# Altium schematic symbol library kmilo17pet-Maxim_Sensors.SchLib: 1172 symbols (part 15 of 61)
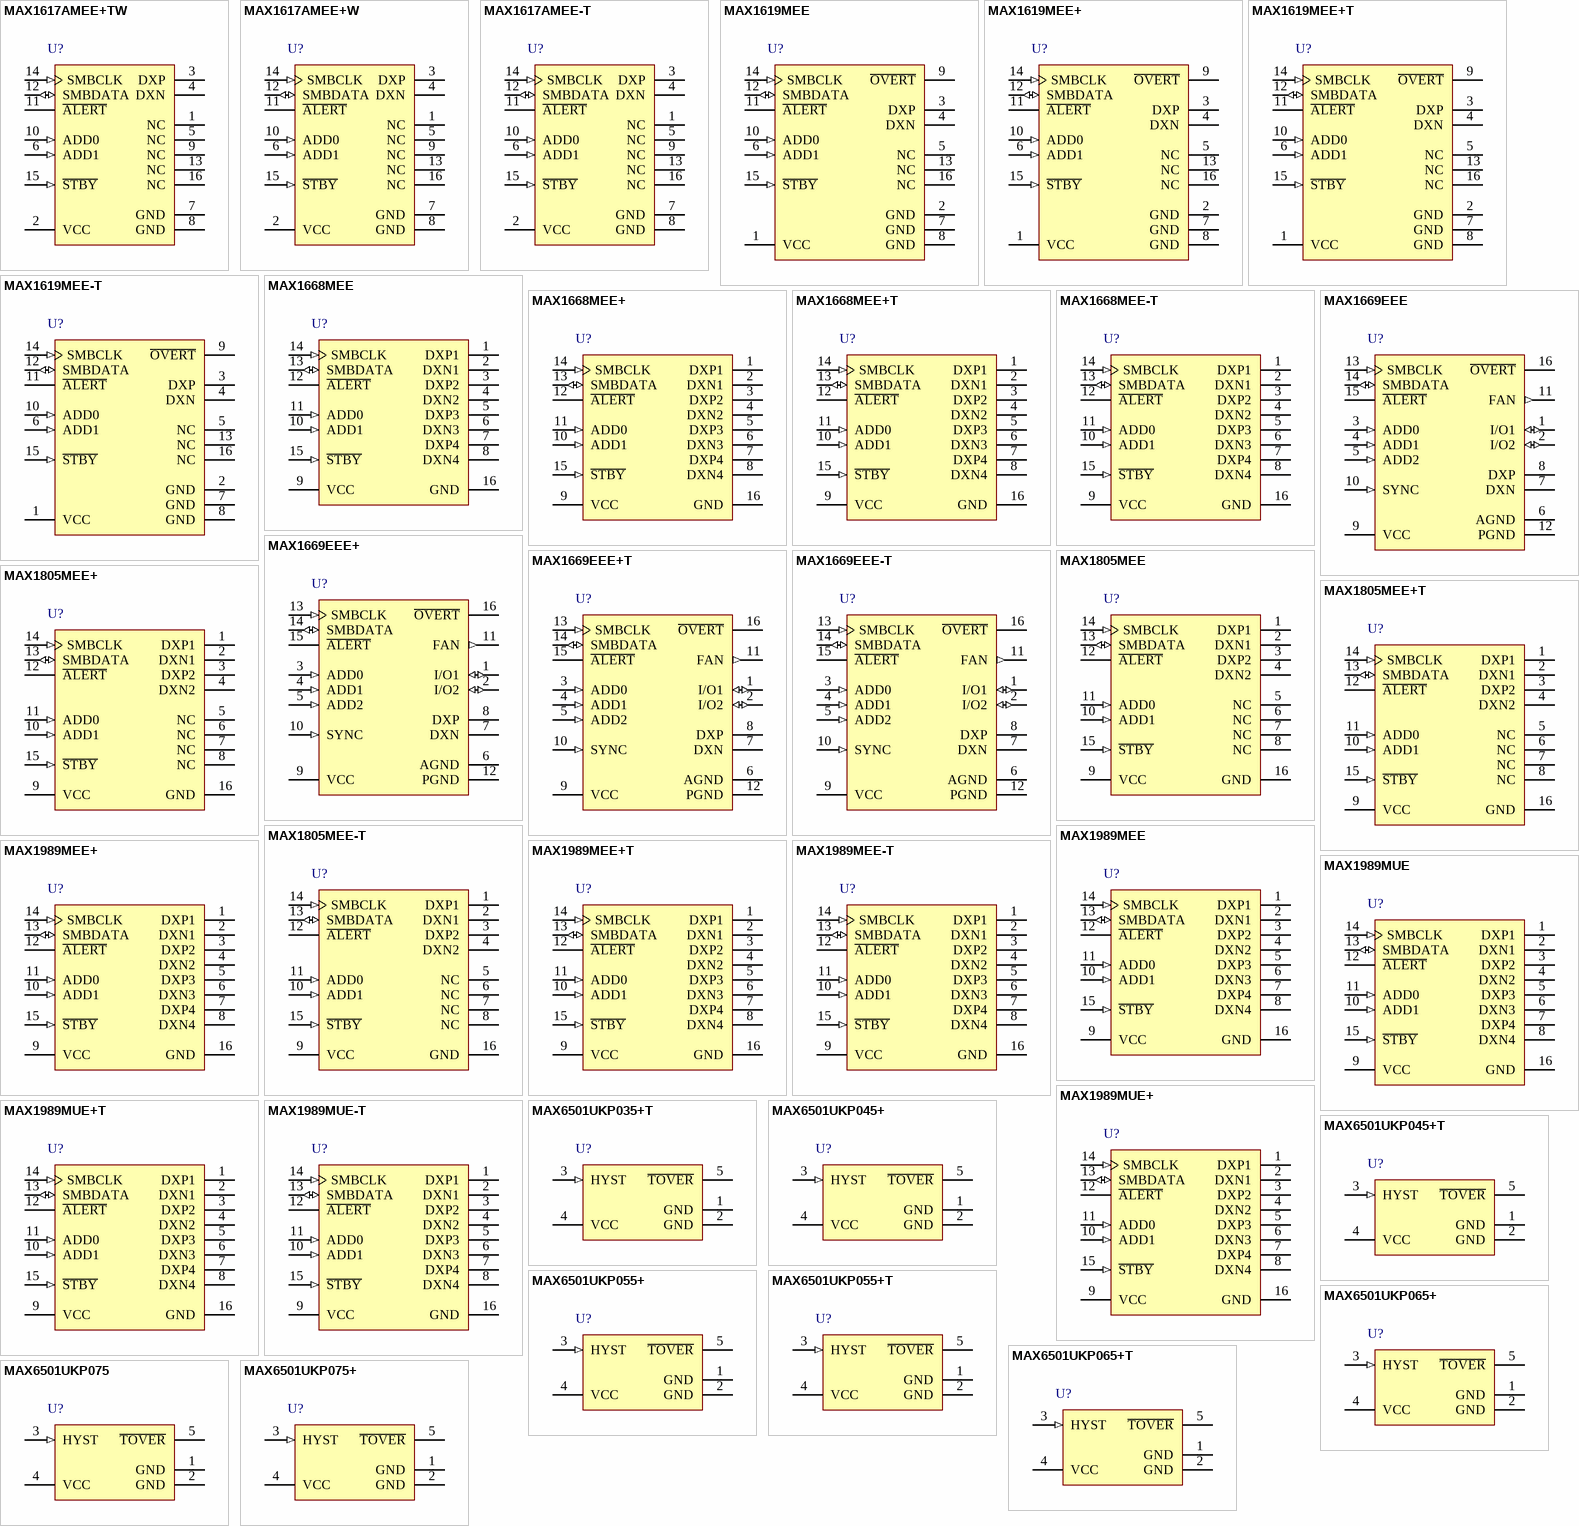
[diagram p47: symbols MAX1617AMEE+TW to MAX6501UKP075+]

## MAX1989MEE+
designator U?
Five-Channel Temperature Sensor with SMBus Serial Interface, 8 Bits Temperature Resolution, -55 to 125 degC, 16-Pin SOP (E16+1), Pb-Free; Generic Part Number: MAX1989; PartNumber: MAX1989MEE+; Alarm Output: Alert; Functions: Remote & Local Sensor; Interface: 2-Wire/I2C/SMBus; Parasite Pwr.: No; DatasheetVersion: Rev. 2; PackageVersion: Rev. K, 04/2012; PackageReference: E16+1; PackageDescription: 16-Pin Quarter Small-Outline Package (E16+1), Body 4.90 x 3.89 mm, Pitch 0.635 mm; Supplier 1: Digi-Key; Supplier Part Number 1: MAX1989MEE+-ND; Supplier 2: Mouser; Supplier Part Number 2: 700-MAX1989MEE; Mounting Technology: Surface Mount; Code_JEDEC: MO137; ComponentLink1Description: Manufacturer URL; ComponentLink1URL: http://www.maximintegrated.com/; ComponentLink2Description: Datasheet; ComponentLink2URL: http://datasheets.maximintegrated.com/en/ds/MAX1668-MAX1989.pdf; ComponentLink3Description: Package Specification; ComponentLink3URL: http://pdfserv.maximintegrated.com/package_dwgs/21-0055.PDF
footprint MAXM-E16+1_N (SOP, 16-Leads, Body 4.9x3.89mm, Pitch 0.635mm, IPC Medium Density)
footprint MAXM-E16+1_L (SOP, 16-Leads, Body 4.9x3.89mm, Pitch 0.635mm, IPC High Density)
footprint MAXM-E16+1_M (SOP, 16-Leads, Body 4.9x3.89mm, Pitch 0.635mm, IPC Low Density)
pins: 1 DXP1 "Combined Current Source and A/D Positive Input for Remote-Diode Channel. Do not leave DXP floating; connect DXP to DXN if no remote diode is used. Place a 2200pF capacitor between DXP and DXN for noise filtering.", 2 DXN1 "Combined Current Sink and A/D Negative Input. DXN is normally biased to a diode voltage above ground.", 3 DXP2 "Combined Current Source and A/D Positive Input for Remote-Diode Channel. Do not leave DXP floating; connect DXP to DXN if no remote diode is used. Place a 2200pF capacitor between DXP and DXN for noise filtering.", 4 DXN2 "Combined Current Sink and A/D Negative Input. DXN is normally biased to a diode voltage above ground.", 5 DXP3 "Combined Current Source and A/D Positive Input for Remote-Diode Channel. Do not leave DXP floating; connect DXP to DXN if no remote diode is used. Place a 2200pF capacitor between DXP and DXN for noise filtering.", 6 DXN3 "Combined Current Sink and A/D Negative Input. DXN is normally biased to a diode voltage above ground.", 7 DXP4 "Combined Current Source and A/D Positive Input for Remote-Diode Channel. Do not leave DXP floating; connect DXP to DXN if no remote diode is used. Place a 2200pF capacitor between DXP and DXN for noise filtering.", 8 DXN4 "Combined Current Sink and A/D Negative Input. DXN is normally biased to a diode voltage above ground.", 9 VCC (power) "Supply Voltage Input, 3V to 5.5V. Bypass to GND with a 0.1uF capacitor. A 200ohm series resistor is recommended but not required for additional noise filtering.", 10 ADD1 (in) "SMBus Address Select Pin (Table 8). ADD0 and ADD1 are sampled upon power-up. Excess capacitance (>50pF) at the address pins when floating can cause addressrecognition problems.", 11 ADD0 (in) "SMBus Slave Address Select Pin", 12 ~{ALERT} (oc) "SMBus Alert (Interrupt) Output, Open Drain", 13 SMBDATA (io) "SMBus Serial-Data Input/Output, Open Drain", 14 SMBCLK (in) "SMBus Serial-Clock Input", 15 ~{STBY} (in) "Hardware Standby Input. Temperature and comparison threshold data are retained in standby mode. Low = standby mode, high = operate mode.", 16 GND (power) "Ground"

## MAX1989MEE+T
designator U?
Five-Channel Temperature Sensor with SMBus Serial Interface, 8 Bits Temperature Resolution, -55 to 125 degC, 16-Pin SOP (E16+1), Pb-Free, Tape and Reel; Generic Part Number: MAX1989; PartNumber: MAX1989MEE+T; Alarm Output: Alert; Functions: Remote & Local Sensor; Interface: 2-Wire/I2C/SMBus; Parasite Pwr.: No; DatasheetVersion: Rev. 2; PackageVersion: Rev. K, 04/2012; PackageReference: E16+1; PackageDescription: 16-Pin Quarter Small-Outline Package (E16+1), Body 4.90 x 3.89 mm, Pitch 0.635 mm; Supplier 1: Digi-Key; Supplier Part Number 1: MAX1989MEE+T-ND; Supplier 2: Mouser; Supplier Part Number 2: 700-MAX1989MEET; Packing: Tape and Reel; Mounting Technology: Surface Mount; Code_JEDEC: MO137; ComponentLink1Description: Manufacturer URL; ComponentLink1URL: http://www.maximintegrated.com/; ComponentLink2Description: Datasheet; ComponentLink2URL: http://datasheets.maximintegrated.com/en/ds/MAX1668-MAX1989.pdf; ComponentLink3Description: Package Specification; ComponentLink3URL: http://pdfserv.maximintegrated.com/package_dwgs/21-0055.PDF
footprint MAXM-E16+1_N (SOP, 16-Leads, Body 4.9x3.89mm, Pitch 0.635mm, IPC Medium Density)
footprint MAXM-E16+1_L (SOP, 16-Leads, Body 4.9x3.89mm, Pitch 0.635mm, IPC High Density)
footprint MAXM-E16+1_M (SOP, 16-Leads, Body 4.9x3.89mm, Pitch 0.635mm, IPC Low Density)
pins: 1 DXP1 "Combined Current Source and A/D Positive Input for Remote-Diode Channel. Do not leave DXP floating; connect DXP to DXN if no remote diode is used. Place a 2200pF capacitor between DXP and DXN for noise filtering.", 2 DXN1 "Combined Current Sink and A/D Negative Input. DXN is normally biased to a diode voltage above ground.", 3 DXP2 "Combined Current Source and A/D Positive Input for Remote-Diode Channel. Do not leave DXP floating; connect DXP to DXN if no remote diode is used. Place a 2200pF capacitor between DXP and DXN for noise filtering.", 4 DXN2 "Combined Current Sink and A/D Negative Input. DXN is normally biased to a diode voltage above ground.", 5 DXP3 "Combined Current Source and A/D Positive Input for Remote-Diode Channel. Do not leave DXP floating; connect DXP to DXN if no remote diode is used. Place a 2200pF capacitor between DXP and DXN for noise filtering.", 6 DXN3 "Combined Current Sink and A/D Negative Input. DXN is normally biased to a diode voltage above ground.", 7 DXP4 "Combined Current Source and A/D Positive Input for Remote-Diode Channel. Do not leave DXP floating; connect DXP to DXN if no remote diode is used. Place a 2200pF capacitor between DXP and DXN for noise filtering.", 8 DXN4 "Combined Current Sink and A/D Negative Input. DXN is normally biased to a diode voltage above ground.", 9 VCC (power) "Supply Voltage Input, 3V to 5.5V. Bypass to GND with a 0.1uF capacitor. A 200ohm series resistor is recommended but not required for additional noise filtering.", 10 ADD1 (in) "SMBus Address Select Pin (Table 8). ADD0 and ADD1 are sampled upon power-up. Excess capacitance (>50pF) at the address pins when floating can cause addressrecognition problems.", 11 ADD0 (in) "SMBus Slave Address Select Pin", 12 ~{ALERT} (oc) "SMBus Alert (Interrupt) Output, Open Drain", 13 SMBDATA (io) "SMBus Serial-Data Input/Output, Open Drain", 14 SMBCLK (in) "SMBus Serial-Clock Input", 15 ~{STBY} (in) "Hardware Standby Input. Temperature and comparison threshold data are retained in standby mode. Low = standby mode, high = operate mode.", 16 GND (power) "Ground"

## MAX1989MEE-T
designator U?
Five-Channel Temperature Sensor with SMBus Serial Interface, 8 Bits Temperature Resolution, -55 to 125 degC, 16-Pin SOP (E16-1), Tape and Reel; Generic Part Number: MAX1989; PartNumber: MAX1989MEE-T; Alarm Output: Alert; Functions: Remote & Local Sensor; Interface: 2-Wire/I2C/SMBus; Parasite Pwr.: No; DatasheetVersion: Rev. 2; PackageVersion: Rev. K, 04/2012; PackageReference: E16-1; PackageDescription: 16-Pin Quarter Small-Outline Package (E16-1), Body 4.90 x 3.89 mm, Pitch 0.635 mm; Supplier 1: Mouser; Supplier Part Number 1: N/A; Packing: Tape and Reel; Mounting Technology: Surface Mount; Code_JEDEC: MO137; ComponentLink1Description: Manufacturer URL; ComponentLink1URL: http://www.maximintegrated.com/; ComponentLink2Description: Datasheet; ComponentLink2URL: http://datasheets.maximintegrated.com/en/ds/MAX1668-MAX1989.pdf; ComponentLink3Description: Package Specification; ComponentLink3URL: http://pdfserv.maximintegrated.com/package_dwgs/21-0055.PDF
footprint MAXM-E16-1_N (SOP, 16-Leads, Body 4.9x3.89mm, Pitch 0.635mm, IPC Medium Density)
footprint MAXM-E16-1_L (SOP, 16-Leads, Body 4.9x3.89mm, Pitch 0.635mm, IPC High Density)
footprint MAXM-E16-1_M (SOP, 16-Leads, Body 4.9x3.89mm, Pitch 0.635mm, IPC Low Density)
pins: 1 DXP1 "Combined Current Source and A/D Positive Input for Remote-Diode Channel. Do not leave DXP floating; connect DXP to DXN if no remote diode is used. Place a 2200pF capacitor between DXP and DXN for noise filtering.", 2 DXN1 "Combined Current Sink and A/D Negative Input. DXN is normally biased to a diode voltage above ground.", 3 DXP2 "Combined Current Source and A/D Positive Input for Remote-Diode Channel. Do not leave DXP floating; connect DXP to DXN if no remote diode is used. Place a 2200pF capacitor between DXP and DXN for noise filtering.", 4 DXN2 "Combined Current Sink and A/D Negative Input. DXN is normally biased to a diode voltage above ground.", 5 DXP3 "Combined Current Source and A/D Positive Input for Remote-Diode Channel. Do not leave DXP floating; connect DXP to DXN if no remote diode is used. Place a 2200pF capacitor between DXP and DXN for noise filtering.", 6 DXN3 "Combined Current Sink and A/D Negative Input. DXN is normally biased to a diode voltage above ground.", 7 DXP4 "Combined Current Source and A/D Positive Input for Remote-Diode Channel. Do not leave DXP floating; connect DXP to DXN if no remote diode is used. Place a 2200pF capacitor between DXP and DXN for noise filtering.", 8 DXN4 "Combined Current Sink and A/D Negative Input. DXN is normally biased to a diode voltage above ground.", 9 VCC (power) "Supply Voltage Input, 3V to 5.5V. Bypass to GND with a 0.1uF capacitor. A 200ohm series resistor is recommended but not required for additional noise filtering.", 10 ADD1 (in) "SMBus Address Select Pin (Table 8). ADD0 and ADD1 are sampled upon power-up. Excess capacitance (>50pF) at the address pins when floating can cause addressrecognition problems.", 11 ADD0 (in) "SMBus Slave Address Select Pin", 12 ~{ALERT} (oc) "SMBus Alert (Interrupt) Output, Open Drain", 13 SMBDATA (io) "SMBus Serial-Data Input/Output, Open Drain", 14 SMBCLK (in) "SMBus Serial-Clock Input", 15 ~{STBY} (in) "Hardware Standby Input. Temperature and comparison threshold data are retained in standby mode. Low = standby mode, high = operate mode.", 16 GND (power) "Ground"

## MAX1989MUE
designator U?
Five-Channel Temperature Sensor with SMBus Serial Interface, 8 Bits Temperature Resolution, -55 to 125 degC, 16-Pin SOP (U16-2); Generic Part Number: MAX1989; PartNumber: MAX1989MUE; Alarm Output: Alert; Functions: Remote & Local Sensor; Interface: 2-Wire/I2C/SMBus; Parasite Pwr.: No; DatasheetVersion: Rev. 2; PackageVersion: Rev. L, 07/2010; PackageReference: U16-2; PackageDescription: 16-Pin Thin Shrink Small-Outline Package, Body 4.4 x 5 mm, Pitch 0.65 mm; Supplier 1: Mouser; Supplier Part Number 1: N/A; Mounting Technology: Surface Mount; Code_JEDEC: MO-153; ComponentLink1Description: Manufacturer URL; ComponentLink1URL: http://www.maximintegrated.com/; ComponentLink2Description: Datasheet; ComponentLink2URL: http://datasheets.maximintegrated.com/en/ds/MAX1668-MAX1989.pdf; ComponentLink3Description: Package Specification; ComponentLink3URL: http://pdfserv.maximintegrated.com/package_dwgs/21-0066.PDF
footprint MAXM-U16-2_N (SOP, 16-Leads, Body 5x4.4mm, Pitch 0.65mm, IPC Medium Density)
footprint MAXM-U16-2_L (SOP, 16-Leads, Body 5x4.4mm, Pitch 0.65mm, IPC High Density)
footprint MAXM-U16-2_M (SOP, 16-Leads, Body 5x4.4mm, Pitch 0.65mm, IPC Low Density)
pins: 1 DXP1 "Combined Current Source and A/D Positive Input for Remote-Diode Channel. Do not leave DXP floating; connect DXP to DXN if no remote diode is used. Place a 2200pF capacitor between DXP and DXN for noise filtering.", 2 DXN1 "Combined Current Sink and A/D Negative Input. DXN is normally biased to a diode voltage above ground.", 3 DXP2 "Combined Current Source and A/D Positive Input for Remote-Diode Channel. Do not leave DXP floating; connect DXP to DXN if no remote diode is used. Place a 2200pF capacitor between DXP and DXN for noise filtering.", 4 DXN2 "Combined Current Sink and A/D Negative Input. DXN is normally biased to a diode voltage above ground.", 5 DXP3 "Combined Current Source and A/D Positive Input for Remote-Diode Channel. Do not leave DXP floating; connect DXP to DXN if no remote diode is used. Place a 2200pF capacitor between DXP and DXN for noise filtering.", 6 DXN3 "Combined Current Sink and A/D Negative Input. DXN is normally biased to a diode voltage above ground.", 7 DXP4 "Combined Current Source and A/D Positive Input for Remote-Diode Channel. Do not leave DXP floating; connect DXP to DXN if no remote diode is used. Place a 2200pF capacitor between DXP and DXN for noise filtering.", 8 DXN4 "Combined Current Sink and A/D Negative Input. DXN is normally biased to a diode voltage above ground.", 9 VCC (power) "Supply Voltage Input, 3V to 5.5V. Bypass to GND with a 0.1uF capacitor. A 200ohm series resistor is recommended but not required for additional noise filtering.", 10 ADD1 (in) "SMBus Address Select Pin (Table 8). ADD0 and ADD1 are sampled upon power-up. Excess capacitance (>50pF) at the address pins when floating can cause addressrecognition problems.", 11 ADD0 (in) "SMBus Slave Address Select Pin", 12 ~{ALERT} (oc) "SMBus Alert (Interrupt) Output, Open Drain", 13 SMBDATA (io) "SMBus Serial-Data Input/Output, Open Drain", 14 SMBCLK (in) "SMBus Serial-Clock Input", 15 ~{STBY} (in) "Hardware Standby Input. Temperature and comparison threshold data are retained in standby mode. Low = standby mode, high = operate mode.", 16 GND (power) "Ground"

## MAX1989MUE+
designator U?
Five-Channel Temperature Sensor with SMBus Serial Interface, 8 Bits Temperature Resolution, -55 to 125 degC, 16-Pin SOP (U16+2), Pb-Free; Generic Part Number: MAX1989; PartNumber: MAX1989MUE+; Alarm Output: Alert; Functions: Remote & Local Sensor; Interface: 2-Wire/I2C/SMBus; Parasite Pwr.: No; DatasheetVersion: Rev. 2; PackageVersion: Rev. L, 07/2010; PackageReference: U16+2; PackageDescription: 16-Pin Thin Shrink Small-Outline Package (U16+2), Body 5 x 4.4 mm, Pitch 0.65 mm; Supplier 1: Digi-Key; Supplier Part Number 1: MAX1989MUE+-ND; Supplier 2: Mouser; Supplier Part Number 2: 700-MAX1989MUE; Mounting Technology: Surface Mount; Code_JEDEC: MO-153; ComponentLink1Description: Manufacturer URL; ComponentLink1URL: http://www.maximintegrated.com/; ComponentLink2Description: Datasheet; ComponentLink2URL: http://datasheets.maximintegrated.com/en/ds/MAX1668-MAX1989.pdf; ComponentLink3Description: Package Specification; ComponentLink3URL: http://pdfserv.maximintegrated.com/package_dwgs/21-0066.PDF
footprint MAXM-U16+2_N (SOP, 16-Leads, Body 5x4.4mm, Pitch 0.65mm, IPC Medium Density)
footprint MAXM-U16+2_L (SOP, 16-Leads, Body 5x4.4mm, Pitch 0.65mm, IPC High Density)
footprint MAXM-U16+2_M (SOP, 16-Leads, Body 5x4.4mm, Pitch 0.65mm, IPC Low Density)
pins: 1 DXP1 "Combined Current Source and A/D Positive Input for Remote-Diode Channel. Do not leave DXP floating; connect DXP to DXN if no remote diode is used. Place a 2200pF capacitor between DXP and DXN for noise filtering.", 2 DXN1 "Combined Current Sink and A/D Negative Input. DXN is normally biased to a diode voltage above ground.", 3 DXP2 "Combined Current Source and A/D Positive Input for Remote-Diode Channel. Do not leave DXP floating; connect DXP to DXN if no remote diode is used. Place a 2200pF capacitor between DXP and DXN for noise filtering.", 4 DXN2 "Combined Current Sink and A/D Negative Input. DXN is normally biased to a diode voltage above ground.", 5 DXP3 "Combined Current Source and A/D Positive Input for Remote-Diode Channel. Do not leave DXP floating; connect DXP to DXN if no remote diode is used. Place a 2200pF capacitor between DXP and DXN for noise filtering.", 6 DXN3 "Combined Current Sink and A/D Negative Input. DXN is normally biased to a diode voltage above ground.", 7 DXP4 "Combined Current Source and A/D Positive Input for Remote-Diode Channel. Do not leave DXP floating; connect DXP to DXN if no remote diode is used. Place a 2200pF capacitor between DXP and DXN for noise filtering.", 8 DXN4 "Combined Current Sink and A/D Negative Input. DXN is normally biased to a diode voltage above ground.", 9 VCC (power) "Supply Voltage Input, 3V to 5.5V. Bypass to GND with a 0.1uF capacitor. A 200ohm series resistor is recommended but not required for additional noise filtering.", 10 ADD1 (in) "SMBus Address Select Pin (Table 8). ADD0 and ADD1 are sampled upon power-up. Excess capacitance (>50pF) at the address pins when floating can cause addressrecognition problems.", 11 ADD0 (in) "SMBus Slave Address Select Pin", 12 ~{ALERT} (oc) "SMBus Alert (Interrupt) Output, Open Drain", 13 SMBDATA (io) "SMBus Serial-Data Input/Output, Open Drain", 14 SMBCLK (in) "SMBus Serial-Clock Input", 15 ~{STBY} (in) "Hardware Standby Input. Temperature and comparison threshold data are retained in standby mode. Low = standby mode, high = operate mode.", 16 GND (power) "Ground"

## MAX1989MUE+T
designator U?
Five-Channel Temperature Sensor with SMBus Serial Interface, 8 Bits Temperature Resolution, -55 to 125 degC, 16-Pin SOP (U16+2), Pb-Free, Tape and Reel; Generic Part Number: MAX1989; PartNumber: MAX1989MUE+T; Alarm Output: Alert; Functions: Remote & Local Sensor; Interface: 2-Wire/I2C/SMBus; Parasite Pwr.: No; DatasheetVersion: Rev. 2; PackageVersion: Rev. L, 07/2010; PackageReference: U16+2; PackageDescription: 16-Pin Thin Shrink Small-Outline Package (U16+2), Body 5 x 4.4 mm, Pitch 0.65 mm; Supplier 1: Digi-Key; Supplier Part Number 1: MAX1989MUE+T-ND; Supplier 2: Mouser; Supplier Part Number 2: 700-MAX1989MUET; Packing: Tape and Reel; Mounting Technology: Surface Mount; Code_JEDEC: MO-153; ComponentLink1Description: Manufacturer URL; ComponentLink1URL: http://www.maximintegrated.com/; ComponentLink2Description: Datasheet; ComponentLink2URL: http://datasheets.maximintegrated.com/en/ds/MAX1668-MAX1989.pdf; ComponentLink3Description: Package Specification; ComponentLink3URL: http://pdfserv.maximintegrated.com/package_dwgs/21-0066.PDF
footprint MAXM-U16+2_N (SOP, 16-Leads, Body 5x4.4mm, Pitch 0.65mm, IPC Medium Density)
footprint MAXM-U16+2_L (SOP, 16-Leads, Body 5x4.4mm, Pitch 0.65mm, IPC High Density)
footprint MAXM-U16+2_M (SOP, 16-Leads, Body 5x4.4mm, Pitch 0.65mm, IPC Low Density)
pins: 1 DXP1 "Combined Current Source and A/D Positive Input for Remote-Diode Channel. Do not leave DXP floating; connect DXP to DXN if no remote diode is used. Place a 2200pF capacitor between DXP and DXN for noise filtering.", 2 DXN1 "Combined Current Sink and A/D Negative Input. DXN is normally biased to a diode voltage above ground.", 3 DXP2 "Combined Current Source and A/D Positive Input for Remote-Diode Channel. Do not leave DXP floating; connect DXP to DXN if no remote diode is used. Place a 2200pF capacitor between DXP and DXN for noise filtering.", 4 DXN2 "Combined Current Sink and A/D Negative Input. DXN is normally biased to a diode voltage above ground.", 5 DXP3 "Combined Current Source and A/D Positive Input for Remote-Diode Channel. Do not leave DXP floating; connect DXP to DXN if no remote diode is used. Place a 2200pF capacitor between DXP and DXN for noise filtering.", 6 DXN3 "Combined Current Sink and A/D Negative Input. DXN is normally biased to a diode voltage above ground.", 7 DXP4 "Combined Current Source and A/D Positive Input for Remote-Diode Channel. Do not leave DXP floating; connect DXP to DXN if no remote diode is used. Place a 2200pF capacitor between DXP and DXN for noise filtering.", 8 DXN4 "Combined Current Sink and A/D Negative Input. DXN is normally biased to a diode voltage above ground.", 9 VCC (power) "Supply Voltage Input, 3V to 5.5V. Bypass to GND with a 0.1uF capacitor. A 200ohm series resistor is recommended but not required for additional noise filtering.", 10 ADD1 (in) "SMBus Address Select Pin (Table 8). ADD0 and ADD1 are sampled upon power-up. Excess capacitance (>50pF) at the address pins when floating can cause addressrecognition problems.", 11 ADD0 (in) "SMBus Slave Address Select Pin", 12 ~{ALERT} (oc) "SMBus Alert (Interrupt) Output, Open Drain", 13 SMBDATA (io) "SMBus Serial-Data Input/Output, Open Drain", 14 SMBCLK (in) "SMBus Serial-Clock Input", 15 ~{STBY} (in) "Hardware Standby Input. Temperature and comparison threshold data are retained in standby mode. Low = standby mode, high = operate mode.", 16 GND (power) "Ground"

## MAX1989MUE-T
designator U?
Five-Channel Temperature Sensor with SMBus Serial Interface, 8 Bits Temperature Resolution, -55 to 125 degC, 16-Pin SOP (U16-2), Tape and Reel; Generic Part Number: MAX1989; PartNumber: MAX1989MUE-T; Alarm Output: Alert; Functions: Remote & Local Sensor; Interface: 2-Wire/I2C/SMBus; Parasite Pwr.: No; DatasheetVersion: Rev. 2; PackageVersion: Rev. L, 07/2010; PackageReference: U16-2; PackageDescription: 16-Pin Thin Shrink Small-Outline Package, Body 4.4 x 5 mm, Pitch 0.65 mm; Supplier 1: Mouser; Supplier Part Number 1: N/A; Packing: Tape and Reel; Mounting Technology: Surface Mount; Code_JEDEC: MO-153; ComponentLink1Description: Manufacturer URL; ComponentLink1URL: http://www.maximintegrated.com/; ComponentLink2Description: Datasheet; ComponentLink2URL: http://datasheets.maximintegrated.com/en/ds/MAX1668-MAX1989.pdf; ComponentLink3Description: Package Specification; ComponentLink3URL: http://pdfserv.maximintegrated.com/package_dwgs/21-0066.PDF
footprint MAXM-U16-2_N (SOP, 16-Leads, Body 5x4.4mm, Pitch 0.65mm, IPC Medium Density)
footprint MAXM-U16-2_L (SOP, 16-Leads, Body 5x4.4mm, Pitch 0.65mm, IPC High Density)
footprint MAXM-U16-2_M (SOP, 16-Leads, Body 5x4.4mm, Pitch 0.65mm, IPC Low Density)
pins: 1 DXP1 "Combined Current Source and A/D Positive Input for Remote-Diode Channel. Do not leave DXP floating; connect DXP to DXN if no remote diode is used. Place a 2200pF capacitor between DXP and DXN for noise filtering.", 2 DXN1 "Combined Current Sink and A/D Negative Input. DXN is normally biased to a diode voltage above ground.", 3 DXP2 "Combined Current Source and A/D Positive Input for Remote-Diode Channel. Do not leave DXP floating; connect DXP to DXN if no remote diode is used. Place a 2200pF capacitor between DXP and DXN for noise filtering.", 4 DXN2 "Combined Current Sink and A/D Negative Input. DXN is normally biased to a diode voltage above ground.", 5 DXP3 "Combined Current Source and A/D Positive Input for Remote-Diode Channel. Do not leave DXP floating; connect DXP to DXN if no remote diode is used. Place a 2200pF capacitor between DXP and DXN for noise filtering.", 6 DXN3 "Combined Current Sink and A/D Negative Input. DXN is normally biased to a diode voltage above ground.", 7 DXP4 "Combined Current Source and A/D Positive Input for Remote-Diode Channel. Do not leave DXP floating; connect DXP to DXN if no remote diode is used. Place a 2200pF capacitor between DXP and DXN for noise filtering.", 8 DXN4 "Combined Current Sink and A/D Negative Input. DXN is normally biased to a diode voltage above ground.", 9 VCC (power) "Supply Voltage Input, 3V to 5.5V. Bypass to GND with a 0.1uF capacitor. A 200ohm series resistor is recommended but not required for additional noise filtering.", 10 ADD1 (in) "SMBus Address Select Pin (Table 8). ADD0 and ADD1 are sampled upon power-up. Excess capacitance (>50pF) at the address pins when floating can cause addressrecognition problems.", 11 ADD0 (in) "SMBus Slave Address Select Pin", 12 ~{ALERT} (oc) "SMBus Alert (Interrupt) Output, Open Drain", 13 SMBDATA (io) "SMBus Serial-Data Input/Output, Open Drain", 14 SMBCLK (in) "SMBus Serial-Clock Input", 15 ~{STBY} (in) "Hardware Standby Input. Temperature and comparison threshold data are retained in standby mode. Low = standby mode, high = operate mode.", 16 GND (power) "Ground"

## MAX6501UKP035+T
designator U?
Low-Cost, 2.7 to 5.5 V, Micropower Open-Drain Temperature Switch with Hot Trip Threshold, -55 to 125 degC, 5-Pin SOT23 (U5+2), Pb-Free, Tape and Reel; Generic Part Number: MAX6501; PartNumber: MAX6501UKP035+T; Functions: Temperature Switch/Temperature Comparator; Interface: Logic; DatasheetVersion: Rev. 6; PackageVersion: Rev. G, 04/2011; PackageReference: U5+2; PackageDescription: 5-Pin Small-Outline Transistor Package, Body 1.625 x 2.9 mm, Pitch 0.95 mm; Supplier 1: Digi-Key; Supplier Part Number 1: MAX6501UKP035+T-ND; Supplier 2: Mouser; Supplier Part Number 2: 700-MAX6501UKP035+T; Packing: Tape and Reel; Mounting Technology: Surface Mount; Code_JEDEC: MO178; ComponentLink1Description: Manufacturer URL; ComponentLink1URL: http://www.maximintegrated.com/; ComponentLink2Description: Datasheet; ComponentLink2URL: http://datasheets.maximintegrated.com/en/ds/MAX6501; ComponentLink3Description: Package Specification; ComponentLink3URL: http://pdfserv.maximintegrated.com/package_dwgs/21-0057.PDF
footprint MAXM-U5+2_N (SOT23, 5-Leads, Body 2.9x1.625mm, Pitch 0.95mm, IPC Medium Density)
footprint MAXM-U5+2_L (SOT23, 5-Leads, Body 2.9x1.625mm, Pitch 0.95mm, IPC High Density)
footprint MAXM-U5+2_M (SOT23, 5-Leads, Body 2.9x1.625mm, Pitch 0.95mm, IPC Low Density)
pins: 1 GND (power) "Ground. Not internally connected. Connect both ground pins together close to the chip. Pin 2 provides the lowest thermal resistance to the die.", 2 GND (power) "Ground. Not internally connected. Connect both ground pins together close to the chip. Pin 2 provides the lowest thermal resistance to the die.", 3 HYST (in) "Hysteresis Input. Connect HYST to GND for 2degreesC hysteresis, or connect to VCC for 10 degreesC hysteresis.", 4 VCC (power) "Supply Input (+2.7V to +5.5V)", 5 ~{TOVER} (oc) "Open-Drain, Active-Low Output. T\O\V\E\R\ goes low when the die temperature exceeds the factory-programmed temperature threshold. Connect to a 100k ohm pullup resistor. May be pulled up to a voltage higher than VCC."

## MAX6501UKP045+
designator U?
Low-Cost, 2.7 to 5.5 V, Micropower Open-Drain Temperature Switch with Hot Trip Threshold, -55 to 125 degC, 5-Pin SOT23 (U5+2), Pb-Free; Generic Part Number: MAX6501; PartNumber: MAX6501UKP045+; Functions: Temperature Switch/Temperature Comparator; Interface: Logic; DatasheetVersion: Rev. 6; PackageVersion: Rev. G, 04/2011; PackageReference: U5+2; PackageDescription: 5-Pin Small-Outline Transistor Package, Body 1.625 x 2.9 mm, Pitch 0.95 mm; Supplier 1: Mouser; Supplier Part Number 1: N/A; Mounting Technology: Surface Mount; Code_JEDEC: MO178; ComponentLink1Description: Manufacturer URL; ComponentLink1URL: http://www.maximintegrated.com/; ComponentLink2Description: Datasheet; ComponentLink2URL: http://datasheets.maximintegrated.com/en/ds/MAX6501; ComponentLink3Description: Package Specification; ComponentLink3URL: http://pdfserv.maximintegrated.com/package_dwgs/21-0057.PDF
footprint MAXM-U5+2_N (SOT23, 5-Leads, Body 2.9x1.625mm, Pitch 0.95mm, IPC Medium Density)
footprint MAXM-U5+2_L (SOT23, 5-Leads, Body 2.9x1.625mm, Pitch 0.95mm, IPC High Density)
footprint MAXM-U5+2_M (SOT23, 5-Leads, Body 2.9x1.625mm, Pitch 0.95mm, IPC Low Density)
pins: 1 GND (power) "Ground. Not internally connected. Connect both ground pins together close to the chip. Pin 2 provides the lowest thermal resistance to the die.", 2 GND (power) "Ground. Not internally connected. Connect both ground pins together close to the chip. Pin 2 provides the lowest thermal resistance to the die.", 3 HYST (in) "Hysteresis Input. Connect HYST to GND for 2degreesC hysteresis, or connect to VCC for 10 degreesC hysteresis.", 4 VCC (power) "Supply Input (+2.7V to +5.5V)", 5 ~{TOVER} (oc) "Open-Drain, Active-Low Output. T\O\V\E\R\ goes low when the die temperature exceeds the factory-programmed temperature threshold. Connect to a 100k ohm pullup resistor. May be pulled up to a voltage higher than VCC."

## MAX6501UKP045+T
designator U?
Low-Cost, 2.7 to 5.5 V, Micropower Open-Drain Temperature Switch with Hot Trip Threshold, -55 to 125 degC, 5-Pin SOT23 (U5+2), Pb-Free, Tape and Reel; Generic Part Number: MAX6501; PartNumber: MAX6501UKP045+T; Functions: Temperature Switch/Temperature Comparator; Interface: Logic; DatasheetVersion: Rev. 6; PackageVersion: Rev. G, 04/2011; PackageReference: U5+2; PackageDescription: 5-Pin Small-Outline Transistor Package, Body 1.625 x 2.9 mm, Pitch 0.95 mm; Supplier 1: Digi-Key; Supplier Part Number 1: MAX6501UKP045+T-ND; Supplier 2: Mouser; Supplier Part Number 2: 700-MAX6501UKP045T; Packing: Tape and Reel; Mounting Technology: Surface Mount; Code_JEDEC: MO178; ComponentLink1Description: Manufacturer URL; ComponentLink1URL: http://www.maximintegrated.com/; ComponentLink2Description: Datasheet; ComponentLink2URL: http://datasheets.maximintegrated.com/en/ds/MAX6501; ComponentLink3Description: Package Specification; ComponentLink3URL: http://pdfserv.maximintegrated.com/package_dwgs/21-0057.PDF
footprint MAXM-U5+2_N (SOT23, 5-Leads, Body 2.9x1.625mm, Pitch 0.95mm, IPC Medium Density)
footprint MAXM-U5+2_L (SOT23, 5-Leads, Body 2.9x1.625mm, Pitch 0.95mm, IPC High Density)
footprint MAXM-U5+2_M (SOT23, 5-Leads, Body 2.9x1.625mm, Pitch 0.95mm, IPC Low Density)
pins: 1 GND (power) "Ground. Not internally connected. Connect both ground pins together close to the chip. Pin 2 provides the lowest thermal resistance to the die.", 2 GND (power) "Ground. Not internally connected. Connect both ground pins together close to the chip. Pin 2 provides the lowest thermal resistance to the die.", 3 HYST (in) "Hysteresis Input. Connect HYST to GND for 2degreesC hysteresis, or connect to VCC for 10 degreesC hysteresis.", 4 VCC (power) "Supply Input (+2.7V to +5.5V)", 5 ~{TOVER} (oc) "Open-Drain, Active-Low Output. T\O\V\E\R\ goes low when the die temperature exceeds the factory-programmed temperature threshold. Connect to a 100k ohm pullup resistor. May be pulled up to a voltage higher than VCC."

## MAX6501UKP055+
designator U?
Low-Cost, 2.7 to 5.5 V, Micropower Open-Drain Temperature Switch with Hot Trip Threshold, -55 to 125 degC, 5-Pin SOT23 (U5+2), Pb-Free; Generic Part Number: MAX6501; PartNumber: MAX6501UKP055+; Functions: Temperature Switch/Temperature Comparator; Interface: Logic; DatasheetVersion: Rev. 6; PackageVersion: Rev. G, 04/2011; PackageReference: U5+2; PackageDescription: 5-Pin Small-Outline Transistor Package, Body 1.625 x 2.9 mm, Pitch 0.95 mm; Supplier 1: Mouser; Supplier Part Number 1: N/A; Mounting Technology: Surface Mount; Code_JEDEC: MO178; ComponentLink1Description: Manufacturer URL; ComponentLink1URL: http://www.maximintegrated.com/; ComponentLink2Description: Datasheet; ComponentLink2URL: http://datasheets.maximintegrated.com/en/ds/MAX6501; ComponentLink3Description: Package Specification; ComponentLink3URL: http://pdfserv.maximintegrated.com/package_dwgs/21-0057.PDF
footprint MAXM-U5+2_N (SOT23, 5-Leads, Body 2.9x1.625mm, Pitch 0.95mm, IPC Medium Density)
footprint MAXM-U5+2_L (SOT23, 5-Leads, Body 2.9x1.625mm, Pitch 0.95mm, IPC High Density)
footprint MAXM-U5+2_M (SOT23, 5-Leads, Body 2.9x1.625mm, Pitch 0.95mm, IPC Low Density)
pins: 1 GND (power) "Ground. Not internally connected. Connect both ground pins together close to the chip. Pin 2 provides the lowest thermal resistance to the die.", 2 GND (power) "Ground. Not internally connected. Connect both ground pins together close to the chip. Pin 2 provides the lowest thermal resistance to the die.", 3 HYST (in) "Hysteresis Input. Connect HYST to GND for 2degreesC hysteresis, or connect to VCC for 10 degreesC hysteresis.", 4 VCC (power) "Supply Input (+2.7V to +5.5V)", 5 ~{TOVER} (oc) "Open-Drain, Active-Low Output. T\O\V\E\R\ goes low when the die temperature exceeds the factory-programmed temperature threshold. Connect to a 100k ohm pullup resistor. May be pulled up to a voltage higher than VCC."

## MAX6501UKP055+T
designator U?
Low-Cost, 2.7 to 5.5 V, Micropower Open-Drain Temperature Switch with Hot Trip Threshold, -55 to 125 degC, 5-Pin SOT23 (U5+2), Pb-Free, Tape and Reel; Generic Part Number: MAX6501; PartNumber: MAX6501UKP055+T; Functions: Temperature Switch/Temperature Comparator; Interface: Logic; DatasheetVersion: Rev. 6; PackageVersion: Rev. G, 04/2011; PackageReference: U5+2; PackageDescription: 5-Pin Small-Outline Transistor Package, Body 1.625 x 2.9 mm, Pitch 0.95 mm; Supplier 1: Digi-Key; Supplier Part Number 1: MAX6501UKP055+T-ND; Supplier 2: Mouser; Supplier Part Number 2: 700-MAX6501UKP055T; Packing: Tape and Reel; Mounting Technology: Surface Mount; Code_JEDEC: MO178; ComponentLink1Description: Manufacturer URL; ComponentLink1URL: http://www.maximintegrated.com/; ComponentLink2Description: Datasheet; ComponentLink2URL: http://datasheets.maximintegrated.com/en/ds/MAX6501; ComponentLink3Description: Package Specification; ComponentLink3URL: http://pdfserv.maximintegrated.com/package_dwgs/21-0057.PDF
footprint MAXM-U5+2_N (SOT23, 5-Leads, Body 2.9x1.625mm, Pitch 0.95mm, IPC Medium Density)
footprint MAXM-U5+2_L (SOT23, 5-Leads, Body 2.9x1.625mm, Pitch 0.95mm, IPC High Density)
footprint MAXM-U5+2_M (SOT23, 5-Leads, Body 2.9x1.625mm, Pitch 0.95mm, IPC Low Density)
pins: 1 GND (power) "Ground. Not internally connected. Connect both ground pins together close to the chip. Pin 2 provides the lowest thermal resistance to the die.", 2 GND (power) "Ground. Not internally connected. Connect both ground pins together close to the chip. Pin 2 provides the lowest thermal resistance to the die.", 3 HYST (in) "Hysteresis Input. Connect HYST to GND for 2degreesC hysteresis, or connect to VCC for 10 degreesC hysteresis.", 4 VCC (power) "Supply Input (+2.7V to +5.5V)", 5 ~{TOVER} (oc) "Open-Drain, Active-Low Output. T\O\V\E\R\ goes low when the die temperature exceeds the factory-programmed temperature threshold. Connect to a 100k ohm pullup resistor. May be pulled up to a voltage higher than VCC."

## MAX6501UKP065+
designator U?
Low-Cost, 2.7 to 5.5 V, Micropower Open-Drain Temperature Switch with Hot Trip Threshold, -55 to 125 degC, 5-Pin SOT23 (U5+2), Pb-Free; Generic Part Number: MAX6501; PartNumber: MAX6501UKP065+; Functions: Temperature Switch/Temperature Comparator; Interface: Logic; DatasheetVersion: Rev. 6; PackageVersion: Rev. G, 04/2011; PackageReference: U5+2; PackageDescription: 5-Pin Small-Outline Transistor Package, Body 1.625 x 2.9 mm, Pitch 0.95 mm; Supplier 1: Mouser; Supplier Part Number 1: N/A; Mounting Technology: Surface Mount; Code_JEDEC: MO178; ComponentLink1Description: Manufacturer URL; ComponentLink1URL: http://www.maximintegrated.com/; ComponentLink2Description: Datasheet; ComponentLink2URL: http://datasheets.maximintegrated.com/en/ds/MAX6501; ComponentLink3Description: Package Specification; ComponentLink3URL: http://pdfserv.maximintegrated.com/package_dwgs/21-0057.PDF
footprint MAXM-U5+2_N (SOT23, 5-Leads, Body 2.9x1.625mm, Pitch 0.95mm, IPC Medium Density)
footprint MAXM-U5+2_L (SOT23, 5-Leads, Body 2.9x1.625mm, Pitch 0.95mm, IPC High Density)
footprint MAXM-U5+2_M (SOT23, 5-Leads, Body 2.9x1.625mm, Pitch 0.95mm, IPC Low Density)
pins: 1 GND (power) "Ground. Not internally connected. Connect both ground pins together close to the chip. Pin 2 provides the lowest thermal resistance to the die.", 2 GND (power) "Ground. Not internally connected. Connect both ground pins together close to the chip. Pin 2 provides the lowest thermal resistance to the die.", 3 HYST (in) "Hysteresis Input. Connect HYST to GND for 2degreesC hysteresis, or connect to VCC for 10 degreesC hysteresis.", 4 VCC (power) "Supply Input (+2.7V to +5.5V)", 5 ~{TOVER} (oc) "Open-Drain, Active-Low Output. T\O\V\E\R\ goes low when the die temperature exceeds the factory-programmed temperature threshold. Connect to a 100k ohm pullup resistor. May be pulled up to a voltage higher than VCC."

## MAX6501UKP065+T
designator U?
Low-Cost, 2.7 to 5.5 V, Micropower Open-Drain Temperature Switch with Hot Trip Threshold, -55 to 125 degC, 5-Pin SOT23 (U5+2), Pb-Free, Tape and Reel; Generic Part Number: MAX6501; PartNumber: MAX6501UKP065+T; Functions: Temperature Switch/Temperature Comparator; Interface: Logic; DatasheetVersion: Rev. 6; PackageVersion: Rev. G, 04/2011; PackageReference: U5+2; PackageDescription: 5-Pin Small-Outline Transistor Package, Body 1.625 x 2.9 mm, Pitch 0.95 mm; Supplier 1: Digi-Key; Supplier Part Number 1: MAX6501UKP065+T-ND; Supplier 2: Mouser; Supplier Part Number 2: 700-MAX6501UKP065T; Packing: Tape and Reel; Mounting Technology: Surface Mount; Code_JEDEC: MO178; ComponentLink1Description: Manufacturer URL; ComponentLink1URL: http://www.maximintegrated.com/; ComponentLink2Description: Datasheet; ComponentLink2URL: http://datasheets.maximintegrated.com/en/ds/MAX6501; ComponentLink3Description: Package Specification; ComponentLink3URL: http://pdfserv.maximintegrated.com/package_dwgs/21-0057.PDF
footprint MAXM-U5+2_N (SOT23, 5-Leads, Body 2.9x1.625mm, Pitch 0.95mm, IPC Medium Density)
footprint MAXM-U5+2_L (SOT23, 5-Leads, Body 2.9x1.625mm, Pitch 0.95mm, IPC High Density)
footprint MAXM-U5+2_M (SOT23, 5-Leads, Body 2.9x1.625mm, Pitch 0.95mm, IPC Low Density)
pins: 1 GND (power) "Ground. Not internally connected. Connect both ground pins together close to the chip. Pin 2 provides the lowest thermal resistance to the die.", 2 GND (power) "Ground. Not internally connected. Connect both ground pins together close to the chip. Pin 2 provides the lowest thermal resistance to the die.", 3 HYST (in) "Hysteresis Input. Connect HYST to GND for 2degreesC hysteresis, or connect to VCC for 10 degreesC hysteresis.", 4 VCC (power) "Supply Input (+2.7V to +5.5V)", 5 ~{TOVER} (oc) "Open-Drain, Active-Low Output. T\O\V\E\R\ goes low when the die temperature exceeds the factory-programmed temperature threshold. Connect to a 100k ohm pullup resistor. May be pulled up to a voltage higher than VCC."

## MAX6501UKP075
designator U?
Low-Cost, 2.7 to 5.5 V, Micropower Open-Drain Temperature Switch with Hot Trip Threshold, -55 to 125 degC, 5-Pin SOT23 (U5-2); Generic Part Number: MAX6501; PartNumber: MAX6501UKP075; Functions: Temperature Switch/Temperature Comparator; Interface: Logic; DatasheetVersion: Rev. 6; PackageVersion: Rev. G, 04/2011; PackageReference: U5-2; PackageDescription: 5-Pin Small-Outline Transistor Package, Body 1.625 x 2.9 mm, Pitch 0.95 mm; Supplier 1: Mouser; Supplier Part Number 1: N/A; Mounting Technology: Surface Mount; Code_JEDEC: MO-178; ComponentLink1Description: Manufacturer URL; ComponentLink1URL: http://www.maximintegrated.com/; ComponentLink2Description: Datasheet; ComponentLink2URL: http://datasheets.maximintegrated.com/en/ds/MAX6501; ComponentLink3Description: Package Specification; ComponentLink3URL: http://pdfserv.maximintegrated.com/package_dwgs/21-0057.PDF
footprint MAXM-U5-2_N (SOT23, 5-Leads, Body 2.9x1.625mm, Pitch 0.95mm, IPC Medium Density)
footprint MAXM-U5-2_L (SOT23, 5-Leads, Body 2.9x1.625mm, Pitch 0.95mm, IPC High Density)
footprint MAXM-U5-2_M (SOT23, 5-Leads, Body 2.9x1.625mm, Pitch 0.95mm, IPC Low Density)
pins: 1 GND (power) "Ground. Not internally connected. Connect both ground pins together close to the chip. Pin 2 provides the lowest thermal resistance to the die.", 2 GND (power) "Ground. Not internally connected. Connect both ground pins together close to the chip. Pin 2 provides the lowest thermal resistance to the die.", 3 HYST (in) "Hysteresis Input. Connect HYST to GND for 2degreesC hysteresis, or connect to VCC for 10 degreesC hysteresis.", 4 VCC (power) "Supply Input (+2.7V to +5.5V)", 5 ~{TOVER} (oc) "Open-Drain, Active-Low Output. T\O\V\E\R\ goes low when the die temperature exceeds the factory-programmed temperature threshold. Connect to a 100k ohm pullup resistor. May be pulled up to a voltage higher than VCC."

## MAX6501UKP075+
designator U?
Low-Cost, 2.7 to 5.5 V, Micropower Open-Drain Temperature Switch with Hot Trip Threshold, -55 to 125 degC, 5-Pin SOT23 (U5+2), Pb-Free; Generic Part Number: MAX6501; PartNumber: MAX6501UKP075+; Functions: Temperature Switch/Temperature Comparator; Interface: Logic; DatasheetVersion: Rev. 6; PackageVersion: Rev. G, 04/2011; PackageReference: U5+2; PackageDescription: 5-Pin Small-Outline Transistor Package, Body 1.625 x 2.9 mm, Pitch 0.95 mm; Supplier 1: Mouser; Supplier Part Number 1: N/A; Mounting Technology: Surface Mount; Code_JEDEC: MO178; ComponentLink1Description: Manufacturer URL; ComponentLink1URL: http://www.maximintegrated.com/; ComponentLink2Description: Datasheet; ComponentLink2URL: http://datasheets.maximintegrated.com/en/ds/MAX6501; ComponentLink3Description: Package Specification; ComponentLink3URL: http://pdfserv.maximintegrated.com/package_dwgs/21-0057.PDF
footprint MAXM-U5+2_N (SOT23, 5-Leads, Body 2.9x1.625mm, Pitch 0.95mm, IPC Medium Density)
footprint MAXM-U5+2_L (SOT23, 5-Leads, Body 2.9x1.625mm, Pitch 0.95mm, IPC High Density)
footprint MAXM-U5+2_M (SOT23, 5-Leads, Body 2.9x1.625mm, Pitch 0.95mm, IPC Low Density)
pins: 1 GND (power) "Ground. Not internally connected. Connect both ground pins together close to the chip. Pin 2 provides the lowest thermal resistance to the die.", 2 GND (power) "Ground. Not internally connected. Connect both ground pins together close to the chip. Pin 2 provides the lowest thermal resistance to the die.", 3 HYST (in) "Hysteresis Input. Connect HYST to GND for 2degreesC hysteresis, or connect to VCC for 10 degreesC hysteresis.", 4 VCC (power) "Supply Input (+2.7V to +5.5V)", 5 ~{TOVER} (oc) "Open-Drain, Active-Low Output. T\O\V\E\R\ goes low when the die temperature exceeds the factory-programmed temperature threshold. Connect to a 100k ohm pullup resistor. May be pulled up to a voltage higher than VCC."

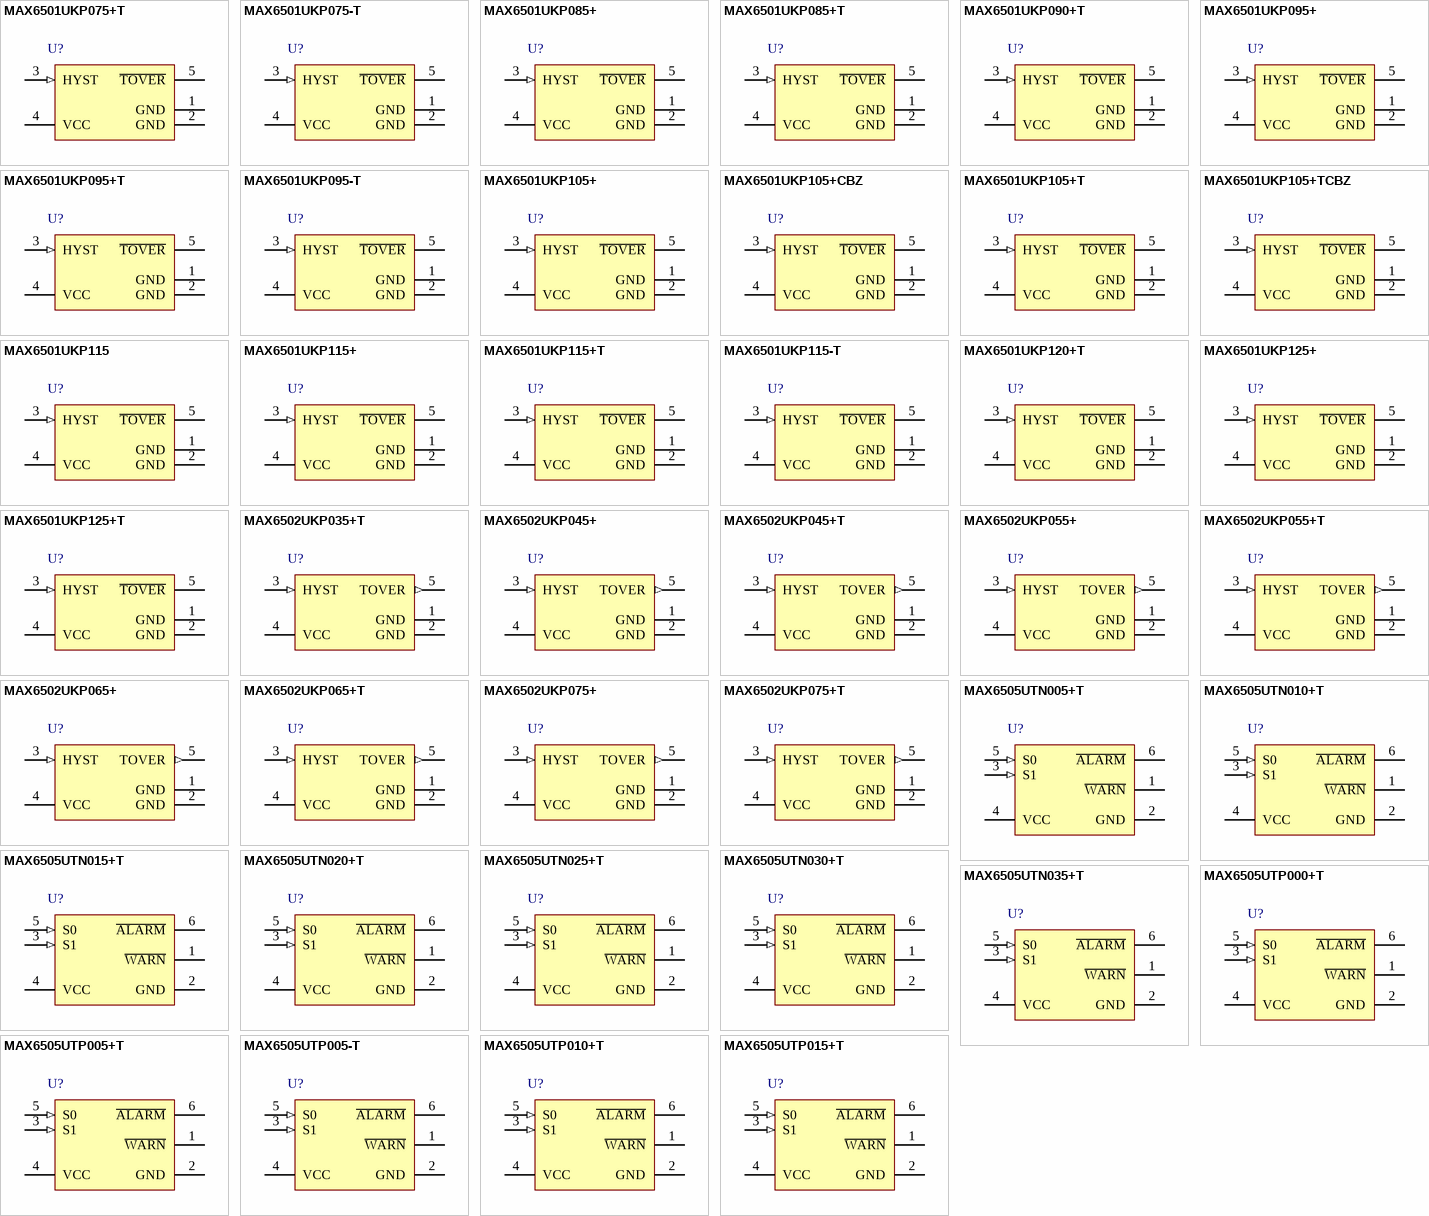
[diagram p9: symbols MAX6501UKP075+T to MAX6505UTP015+T]

## MAX6501UKP075+T
designator U?
Low-Cost, 2.7 to 5.5 V, Micropower Open-Drain Temperature Switch with Hot Trip Threshold, -55 to 125 degC, 5-Pin SOT23 (U5+2), Pb-Free, Tape and Reel; Generic Part Number: MAX6501; PartNumber: MAX6501UKP075+T; Functions: Temperature Switch/Temperature Comparator; Interface: Logic; DatasheetVersion: Rev. 6; PackageVersion: Rev. G, 04/2011; PackageReference: U5+2; PackageDescription: 5-Pin Small-Outline Transistor Package, Body 1.625 x 2.9 mm, Pitch 0.95 mm; Supplier 1: Digi-Key; Supplier Part Number 1: MAX6501UKP075+T-ND; Supplier 2: Mouser; Supplier Part Number 2: 700-MAX6501UKP075T; Packing: Tape and Reel; Mounting Technology: Surface Mount; Code_JEDEC: MO178; ComponentLink1Description: Manufacturer URL; ComponentLink1URL: http://www.maximintegrated.com/; ComponentLink2Description: Datasheet; ComponentLink2URL: http://datasheets.maximintegrated.com/en/ds/MAX6501; ComponentLink3Description: Package Specification; ComponentLink3URL: http://pdfserv.maximintegrated.com/package_dwgs/21-0057.PDF
footprint MAXM-U5+2_N (SOT23, 5-Leads, Body 2.9x1.625mm, Pitch 0.95mm, IPC Medium Density)
footprint MAXM-U5+2_L (SOT23, 5-Leads, Body 2.9x1.625mm, Pitch 0.95mm, IPC High Density)
footprint MAXM-U5+2_M (SOT23, 5-Leads, Body 2.9x1.625mm, Pitch 0.95mm, IPC Low Density)
pins: 1 GND (power) "Ground. Not internally connected. Connect both ground pins together close to the chip. Pin 2 provides the lowest thermal resistance to the die.", 2 GND (power) "Ground. Not internally connected. Connect both ground pins together close to the chip. Pin 2 provides the lowest thermal resistance to the die.", 3 HYST (in) "Hysteresis Input. Connect HYST to GND for 2degreesC hysteresis, or connect to VCC for 10 degreesC hysteresis.", 4 VCC (power) "Supply Input (+2.7V to +5.5V)", 5 ~{TOVER} (oc) "Open-Drain, Active-Low Output. T\O\V\E\R\ goes low when the die temperature exceeds the factory-programmed temperature threshold. Connect to a 100k ohm pullup resistor. May be pulled up to a voltage higher than VCC."

## MAX6501UKP075-T
designator U?
Low-Cost, 2.7 to 5.5 V, Micropower Open-Drain Temperature Switch with Hot Trip Threshold, -55 to 125 degC, 5-Pin SOT23 (U5-2), Tape and Reel; Generic Part Number: MAX6501; PartNumber: MAX6501UKP075-T; Functions: Temperature Switch/Temperature Comparator; Interface: Logic; DatasheetVersion: Rev. 6; PackageVersion: Rev. G, 04/2011; PackageReference: U5-2; PackageDescription: 5-Pin Small-Outline Transistor Package, Body 1.625 x 2.9 mm, Pitch 0.95 mm; Supplier 1: Mouser; Supplier Part Number 1: N/A; Packing: Tape and Reel; Mounting Technology: Surface Mount; Code_JEDEC: MO-178; ComponentLink1Description: Manufacturer URL; ComponentLink1URL: http://www.maximintegrated.com/; ComponentLink2Description: Datasheet; ComponentLink2URL: http://datasheets.maximintegrated.com/en/ds/MAX6501; ComponentLink3Description: Package Specification; ComponentLink3URL: http://pdfserv.maximintegrated.com/package_dwgs/21-0057.PDF
footprint MAXM-U5-2_N (SOT23, 5-Leads, Body 2.9x1.625mm, Pitch 0.95mm, IPC Medium Density)
footprint MAXM-U5-2_L (SOT23, 5-Leads, Body 2.9x1.625mm, Pitch 0.95mm, IPC High Density)
footprint MAXM-U5-2_M (SOT23, 5-Leads, Body 2.9x1.625mm, Pitch 0.95mm, IPC Low Density)
pins: 1 GND (power) "Ground. Not internally connected. Connect both ground pins together close to the chip. Pin 2 provides the lowest thermal resistance to the die.", 2 GND (power) "Ground. Not internally connected. Connect both ground pins together close to the chip. Pin 2 provides the lowest thermal resistance to the die.", 3 HYST (in) "Hysteresis Input. Connect HYST to GND for 2degreesC hysteresis, or connect to VCC for 10 degreesC hysteresis.", 4 VCC (power) "Supply Input (+2.7V to +5.5V)", 5 ~{TOVER} (oc) "Open-Drain, Active-Low Output. T\O\V\E\R\ goes low when the die temperature exceeds the factory-programmed temperature threshold. Connect to a 100k ohm pullup resistor. May be pulled up to a voltage higher than VCC."

## MAX6501UKP085+
designator U?
Low-Cost, 2.7 to 5.5 V, Micropower Open-Drain Temperature Switch with Hot Trip Threshold, -55 to 125 degC, 5-Pin SOT23 (U5+2), Pb-Free; Generic Part Number: MAX6501; PartNumber: MAX6501UKP085+; Functions: Temperature Switch/Temperature Comparator; Interface: Logic; DatasheetVersion: Rev. 6; PackageVersion: Rev. G, 04/2011; PackageReference: U5+2; PackageDescription: 5-Pin Small-Outline Transistor Package, Body 1.625 x 2.9 mm, Pitch 0.95 mm; Supplier 1: Mouser; Supplier Part Number 1: N/A; Mounting Technology: Surface Mount; Code_JEDEC: MO178; ComponentLink1Description: Manufacturer URL; ComponentLink1URL: http://www.maximintegrated.com/; ComponentLink2Description: Datasheet; ComponentLink2URL: http://datasheets.maximintegrated.com/en/ds/MAX6501; ComponentLink3Description: Package Specification; ComponentLink3URL: http://pdfserv.maximintegrated.com/package_dwgs/21-0057.PDF
footprint MAXM-U5+2_N (SOT23, 5-Leads, Body 2.9x1.625mm, Pitch 0.95mm, IPC Medium Density)
footprint MAXM-U5+2_L (SOT23, 5-Leads, Body 2.9x1.625mm, Pitch 0.95mm, IPC High Density)
footprint MAXM-U5+2_M (SOT23, 5-Leads, Body 2.9x1.625mm, Pitch 0.95mm, IPC Low Density)
pins: 1 GND (power) "Ground. Not internally connected. Connect both ground pins together close to the chip. Pin 2 provides the lowest thermal resistance to the die.", 2 GND (power) "Ground. Not internally connected. Connect both ground pins together close to the chip. Pin 2 provides the lowest thermal resistance to the die.", 3 HYST (in) "Hysteresis Input. Connect HYST to GND for 2degreesC hysteresis, or connect to VCC for 10 degreesC hysteresis.", 4 VCC (power) "Supply Input (+2.7V to +5.5V)", 5 ~{TOVER} (oc) "Open-Drain, Active-Low Output. T\O\V\E\R\ goes low when the die temperature exceeds the factory-programmed temperature threshold. Connect to a 100k ohm pullup resistor. May be pulled up to a voltage higher than VCC."

## MAX6501UKP085+T
designator U?
Low-Cost, 2.7 to 5.5 V, Micropower Open-Drain Temperature Switch with Hot Trip Threshold, -55 to 125 degC, 5-Pin SOT23 (U5+2), Pb-Free, Tape and Reel; Generic Part Number: MAX6501; PartNumber: MAX6501UKP085+T; Functions: Temperature Switch/Temperature Comparator; Interface: Logic; DatasheetVersion: Rev. 6; PackageVersion: Rev. G, 04/2011; PackageReference: U5+2; PackageDescription: 5-Pin Small-Outline Transistor Package, Body 1.625 x 2.9 mm, Pitch 0.95 mm; Supplier 1: Digi-Key; Supplier Part Number 1: MAX6501UKP085+T-ND; Supplier 2: Mouser; Supplier Part Number 2: 700-MAX6501UKP085T; Packing: Tape and Reel; Mounting Technology: Surface Mount; Code_JEDEC: MO178; ComponentLink1Description: Manufacturer URL; ComponentLink1URL: http://www.maximintegrated.com/; ComponentLink2Description: Datasheet; ComponentLink2URL: http://datasheets.maximintegrated.com/en/ds/MAX6501; ComponentLink3Description: Package Specification; ComponentLink3URL: http://pdfserv.maximintegrated.com/package_dwgs/21-0057.PDF
footprint MAXM-U5+2_N (SOT23, 5-Leads, Body 2.9x1.625mm, Pitch 0.95mm, IPC Medium Density)
footprint MAXM-U5+2_L (SOT23, 5-Leads, Body 2.9x1.625mm, Pitch 0.95mm, IPC High Density)
footprint MAXM-U5+2_M (SOT23, 5-Leads, Body 2.9x1.625mm, Pitch 0.95mm, IPC Low Density)
pins: 1 GND (power) "Ground. Not internally connected. Connect both ground pins together close to the chip. Pin 2 provides the lowest thermal resistance to the die.", 2 GND (power) "Ground. Not internally connected. Connect both ground pins together close to the chip. Pin 2 provides the lowest thermal resistance to the die.", 3 HYST (in) "Hysteresis Input. Connect HYST to GND for 2degreesC hysteresis, or connect to VCC for 10 degreesC hysteresis.", 4 VCC (power) "Supply Input (+2.7V to +5.5V)", 5 ~{TOVER} (oc) "Open-Drain, Active-Low Output. T\O\V\E\R\ goes low when the die temperature exceeds the factory-programmed temperature threshold. Connect to a 100k ohm pullup resistor. May be pulled up to a voltage higher than VCC."